# Altium integrated library L293N.IntLib: 1 symbol
Pins are listed as number, name and electrical type; pins without a type are passive.

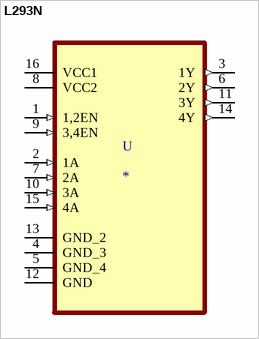
[diagram p0: symbol L293N]

## L293N
designator U
Bipolar Motor Driver Bipolar Parallel 16-PDIP; MP: L293N; MF: Texas Instruments; Availability: Unavailable; Package: PDIP-16 Texas Instruments; SnapEDA_Link: https://www.snapeda.com/parts/L293N/Texas%20Instruments/view-part/4503258/?ref=snap; Value: *; Price: None
footprint DIP254P762X508-16
pins: 1 1,2EN (in), 2 1A (in), 3 1Y (out), 4 GND_3, 5 GND_4, 6 2Y (out), 7 2A (in), 8 VCC2 (power), 9 3,4EN (in), 10 3A (in), 11 3Y (out), 12 GND, 13 GND_2, 14 4Y (out), 15 4A (in), 16 VCC1 (power)